# Altium schematic symbol library NVT4858HKZ.SchLib: 1 symbol
Pins are listed as number, name and electrical type; pins without a type are passive.

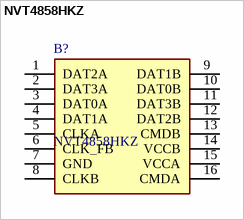
[diagram p0: symbol NVT4858HKZ]

## NVT4858HKZ
designator B?
Translation - Voltage Levels SD 3.0-SDR104 compliant integrated auto-direction control memory card with EMI filter and ESD protection without LDO; Manufacturer_Name: NXP; Geometry.Height: 0.5mm; Manufacturer_Part_Number: NVT4858HKZ; Mouser Part Number: 771-NVT4858HKZ; Mouser Price/Stock: https://www.mouser.co.uk/ProductDetail/NXP-Semiconductors/NVT4858HKZ?qs=TuK3vfAjtkUQFuqXj%252BGfyA%3D%3D; Arrow Part Number: NVT4858HKZ; Arrow Price/Stock: https://www.arrow.com/en/products/nvt4858hkz/nxp-semiconductors?region=nac; Datasheet Link: https://www.nxp.com/part/NVT4858HK#/
footprint NVT4858HKZ
pins: 1 DAT2A, 2 DAT3A, 3 DAT0A, 4 DAT1A, 5 CLKA, 6 CLK_FB, 7 GND, 8 CLKB, 9 DAT1B, 10 DAT0B, 11 DAT3B, 12 DAT2B, 13 CMDB, 14 VCCB, 15 VCCA, 16 CMDA